# EAGLE library part SPARKFUN_M07 (library microSD-Breakout-v14)
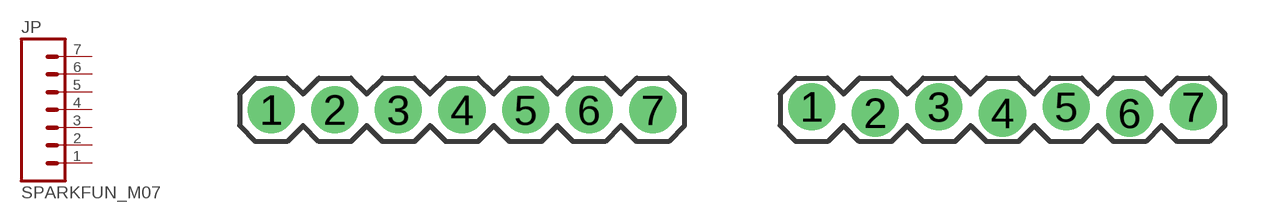
[diagram p0: symbol with the pads of SPARKFUN_1X07; footprints SPARKFUN_1X07, SPARKFUN_1X07_LOCK]

Designator prefix JP

## SPARKFUN_M07  [SPARKFUN_1X07]
1  1  pas
2  2  pas
3  3  pas
4  4  pas
5  5  pas
6  6  pas
7  7  pas

## SPARKFUN_M07LOCK  [SPARKFUN_1X07_LOCK]
Pads as for SPARKFUN_1X07

## SPARKFUN_M07LOCK_LONGPADS  [SPARKFUN_1X07_LOCK_LONGPADS]
Pads as for SPARKFUN_1X07

## Footprint SPARKFUN_1X07 (pad centres in mm)
drill 1.016 pad 1.88: 1 0,0; 2 2.54,0; 3 5.08,0; 4 7.62,0; 5 10.16,0; 6 12.7,0; 7 15.24,0

## Footprint SPARKFUN_1X07_LOCK (pad centres in mm)
drill 1.016 pad 1.88: 1 0,0.127; 2 2.54,-0.127; 3 5.08,0.127; 4 7.62,-0.127; 5 10.16,0.127; 6 12.7,-0.127; 7 15.24,0.127

## Footprint SPARKFUN_1X07_LOCK_LONGPADS (pad centres in mm)
drill 1.016 long: 1 0,0.127; 2 2.54,-0.127; 3 5.08,0.127; 4 7.62,-0.127; 5 10.16,0.127; 6 12.7,-0.127; 7 15.24,0.127